# Altium footprint library STSPIN32G4-Test-board.PcbLib: 2 footprints
Each footprint in its own frame and in the unit in brackets; x right, y up, seen from the top. Pads: shape width x height; smd on the part's side, far side on the other; paste and mask are expansions set on the pad; w line width, h text height; cw(c..) or ccw(c..) is an arc to the next point about the centre after c.
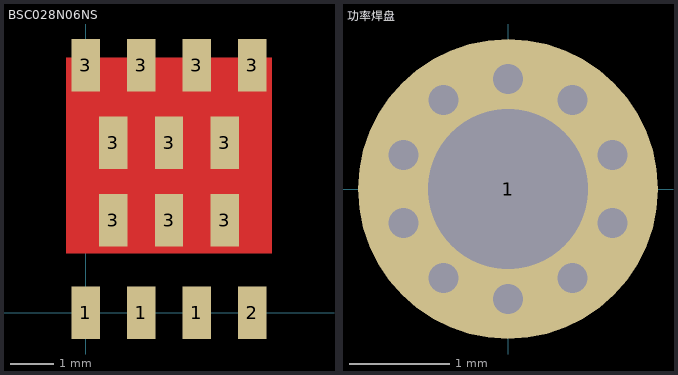
[diagram p0: the footprints below, top view; thin cyan lines are the x and y axes]

## BSC028N06NS [mm] "TDSON-8(5x6) N沟道,60V,100A,2.8mΩ@10V"
pads (14):
  rect 0.65x1.2 smd: 1(0,0) 1(1.27,0) 1(2.54,0) 2(3.81,0) 3(0,5.65) 3(0.635,2.108) 3(0.635,3.879) 3(1.27,5.65) 3(1.905,2.108) 3(1.905,3.879) 3(2.54,5.65) 3(3.175,2.108) 3(3.175,3.879) 3(3.81,5.65)
Top Layer:
  rectangle: -0.445,1.352 4.255,5.822
3D body: height 1.01, standoff 0.01, extent 0.01,0.2 0.61,0.8
3D body: height 1, standoff 0, extent -0.445,-0.172 4.255,5.822

## 功率焊盘 [mm]
pads (1):
  round 3 hole 1.6: 1(0,0)
via 0.647,0.89 diameter 0.5 hole 0.3
via 1.046,0.34 diameter 0.5 hole 0.3
via 1.046,-0.34 diameter 0.5 hole 0.3
via 0.647,-0.89 diameter 0.5 hole 0.3
via 0,-1.1 diameter 0.5 hole 0.3
via -0.647,-0.89 diameter 0.5 hole 0.3
via -1.046,-0.34 diameter 0.5 hole 0.3
via -1.046,0.34 diameter 0.5 hole 0.3
via -0.647,0.89 diameter 0.5 hole 0.3
via 0,1.1 diameter 0.5 hole 0.3
3D body: height 1, standoff -2, extent -0.7,-0.7 0.7,0.7
3D body: height 5.5, standoff 0.5, extent -1.5,-1.5 1.5,1.5